# Altium schematic symbol library Kon_Tipk.SchLib: 80 symbols
Pins are listed as number, name and electrical type; pins without a type are passive.

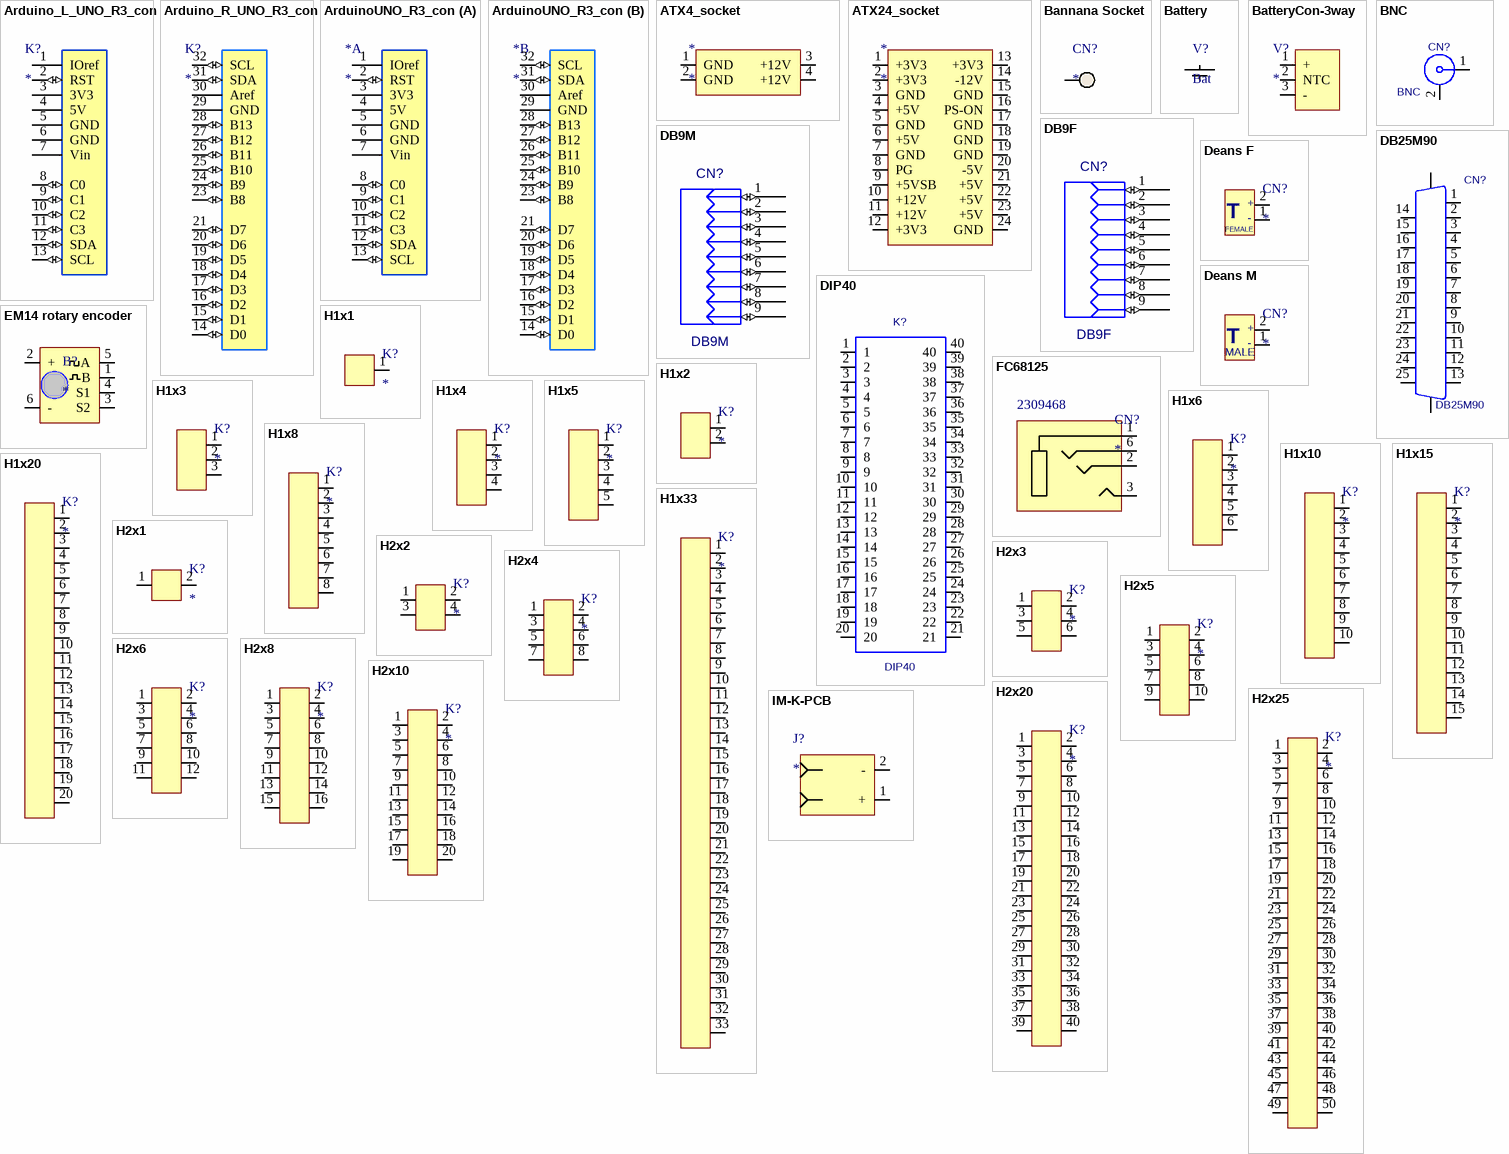
[diagram p0: symbols Arduino_L_UNO_R3_con to IM-K-PCB]

## Arduino_L_UNO_R3_con
designator K?
footprint Arduino_L_UNO_R3_con (Left Header placement for Arduino UNO R3)
pins: 1 IOref (power), 2 RST (io), 3 3V3 (power), 4 5V (power), 5 GND (power), 6 GND (power), 7 Vin (power), 8 C0 (io), 9 C1 (io), 10 C2 (io), 11 C3 (io), 12 SDA (io), 13 SCL (io)

## Arduino_R_UNO_R3_con
designator K?
footprint Arduino_R_UNO_R3_con (Right Header placement for Arduino UNO R3)
pins: 14 D0 (io), 15 D1 (io), 16 D2 (io), 17 D3 (io), 18 D4 (io), 19 D5 (io), 20 D6 (io), 21 D7 (io), 23 B8 (io), 24 B9 (io), 25 B10 (io), 26 B11 (io), 27 B12 (io), 28 B13 (io), 29 GND (power), 30 Aref (power), 31 SDA (io), 32 SCL (io)

## ArduinoUNO_R3_con
designator *
footprint ArduinoUNO_R3_con (Header placement for Arduino UNO R3)
part A pins: 1 IOref (power), 2 RST (io), 3 3V3 (power), 4 5V (power), 5 GND (power), 6 GND (power), 7 Vin (power), 8 C0 (io), 9 C1 (io), 10 C2 (io), 11 C3 (io), 12 SDA (io), 13 SCL (io)
part B pins: 14 D0 (io), 15 D1 (io), 16 D2 (io), 17 D3 (io), 18 D4 (io), 19 D5 (io), 20 D6 (io), 21 D7 (io), 23 B8 (io), 24 B9 (io), 25 B10 (io), 26 B11 (io), 27 B12 (io), 28 B13 (io), 29 GND (power), 30 Aref (power), 31 SDA (io), 32 SCL (io)

## ATX4_socket
designator *
footprint ATX4_socket
pins: 1 GND, 2 GND, 3 +12V, 4 +12V

## ATX24_socket
designator *
footprint ATX24_socket
pins: 1 +3V3, 2 +3V3, 3 GND, 4 +5V, 5 GND, 6 +5V, 7 GND, 8 PG, 9 +5VSB, 10 +12V, 11 +12V, 12 +3V3, 13 +3V3, 14 -12V, 15 GND, 16 PS-ON, 17 GND, 18 GND, 19 GND, 20 -5V, 21 +5V, 22 +5V, 23 +5V, 24 GND

## Bannana Socket
designator CN?
Bannana test socket 4mm
footprint Banana Socket BLACK
footprint Banana Socket RED
pins: 1

## Battery
designator V?, comment Bat
Battery holder
footprint BAT-CLIP-AAA (--UNVERIFIED!!!-- AAA Battery holder clips)
footprint Bat-2032-THT (CR2032 Bat holder THT)
footprint Bat-2032-SMD (CR2032 Bat holder SMD)
pins: +, -

## BatteryCon-3way
designator V?
footprint BATcon-AVX-009155003541006 (9155 MOBO 2.5mm right angle battery connector)
pins: 1 +, 2 NTC, 3 -

## BNC
designator CN?
Value: *
footprint COAX; pin to pad 2>2+3+4+5
pins: 1, 2 GND (power)

## DB9F
designator CN?
Boardmount Pin Connector; Value: *
footprint DB9F
pins: 1 P1 (io), 2 P2 (io), 3 P3 (io), 4 P4 (io), 5 P5 (io), 6 P6 (io), 7 P7 (io), 8 P8 (io), 9 P9 (io)

## DB9M
designator CN?
Boardmount Pin Connector; Value: *
footprint DB9M
pins: 1 P1 (io), 2 P2 (io), 3 P3 (io), 4 P4 (io), 5 P5 (io), 6 P6 (io), 7 P7 (io), 8 P8 (io), 9 P9 (io)

## DB25M90
designator CN?
Value: *
footprint DB25M90
pins: 1, 2, 3, 4, 5, 6, 7, 8, 9, 10, 11, 12, 13, 14, 15, 16, 17, 18, 19, 20, 21, 22, 23, 24, 25, 26 SHIELD (power), 27 SHIELD (power)

## Deans F
designator CN?
Deans female
footprint DEANS-F
pins: 1, 2
text: +; T; -; FEMALE

## Deans M
designator CN?
Deans male
footprint DEANS-M
pins: 1, 2
text: +; T; -; MALE

## DIP40
designator K?
Value: *
footprint DIP40
pins: 1, 2, 3, 4, 5, 6, 7, 8, 9, 10, 11, 12, 13, 14, 15, 16, 17, 18, 19, 20, 21, 22, 23, 24, 25, 26, 27, 28, 29, 30, 31, 32, 33, 34, 35, 36, 37, 38, 39, 40

## EM14 rotary encoder
designator B?
footprint EM14RotaryEncoderAxial
footprint EM14RotaryEncoderAxialWithBracket
pins: 1 B, 2 +, 3 S2, 4 S1, 5 A, 6 -

## FC68125
designator CN?  Supplier Part Number 1: 2309468
Phone Jack 3.5mm 4-pole; Manufacturer: CLIFF ELECTRONIC COMPONENTS; Manufacturer Part Number: FC68125; Pin Diameter: 3.5; No. of Contacts: 4; Supplier 1: Farnell; ComponentLink1URL: http://www.farnell.com/cad/1803251.pdf; ComponentLink1Description: http://www.farnell.com/cad/1803251.pdf; ComponentLink2URL: http://www.farnell.com/datasheets/1759063.pdf; ComponentLink2Description: http://www.farnell.com/datasheets/1759063.pdf
footprint FC68125 (3.5mm phone jack 4-pole)
pins: 1, 2, 3, 6

## H1x1
designator K?
Header 1x1 (male)
footprint H1x1
pins: 1

## H1x2
designator K?
Header 1x2 (male)
footprint H1x2
pins: 1, 2

## H1x3
designator K?
Header 1x3 (male)
footprint H1x3
pins: 1, 2, 3

## H1x4
designator K?
Header 1x4 (male)
footprint H1x4
pins: 1, 2, 3, 4

## H1x5
designator K?
Header 1x5 (male)
footprint H1x5
pins: 1, 2, 3, 4, 5

## H1x6
designator K?
Header 1x6 (male)
footprint H1x6
pins: 1, 2, 3, 4, 5, 6

## H1x8
designator K?
Header 1x8 (male)
footprint H1x8
pins: 1, 2, 3, 4, 5, 6, 7, 8

## H1x10
designator K?
Header 1x10 (male)
footprint H1x10
pins: 1, 2, 3, 4, 5, 6, 7, 8, 9, 10

## H1x15
designator K?
Header 1x10 (male)
footprint H1x15
pins: 1, 2, 3, 4, 5, 6, 7, 8, 9, 10, 11, 12, 13, 14, 15

## H1x20
designator K?
Header 1x20 (male)
footprint H1x20
pins: 1, 2, 3, 4, 5, 6, 7, 8, 9, 10, 11, 12, 13, 14, 15, 16, 17, 18, 19, 20

## H1x33
designator K?
Header 1x20 (male)
footprint H1x33
pins: 1, 2, 3, 4, 5, 6, 7, 8, 9, 10, 11, 12, 13, 14, 15, 16, 17, 18, 19, 20, 21, 22, 23, 24, 25, 26, 27, 28, 29, 30, 31, 32, 33

## H2x1
designator K?
Header 2x1 (male)
footprint H2x1
footprint H2x1 90
pins: 1, 2
1 alternate drawing of the same symbol

## H2x2
designator K?
Header 2x2 (male)
footprint H2x2
footprint H2x3 90
pins: 1, 2, 3, 4
1 alternate drawing of the same symbol

## H2x3
designator K?
Header 2x3 (male)
footprint H2x3
footprint H2x3 90
footprint H2X3_SPEEDY
footprint H2X3_90_SPEEDY
footprint H2X3-edge-SPEEDY
pins: 1, 2, 3, 4, 5, 6
1 alternate drawing of the same symbol

## H2x4
designator K?
Header 2x4 (male)
footprint H2x4
footprint H2x4 90
pins: 1, 2, 3, 4, 5, 6, 7, 8
1 alternate drawing of the same symbol

## H2x5
designator K?
Header 2x5 (male)
footprint H2x5_SPEEDY
footprint H2x5_90_SPEEDY
footprint H2x5
footprint H2x5 90
footprint H2x5 - FEMALE
pins: 1, 2, 3, 4, 5, 6, 7, 8, 9, 10
1 alternate drawing of the same symbol

## H2x6
designator K?
Header 2x5 (male)
footprint H2x6
pins: 1, 2, 3, 4, 5, 6, 7, 8, 9, 10, 11, 12
1 alternate drawing of the same symbol

## H2x8
designator K?
Header 2x5 (male)
footprint H2x8
pins: 1, 2, 3, 4, 5, 6, 7, 8, 9, 10, 11, 12, 13, 14, 15, 16
1 alternate drawing of the same symbol

## H2x10
designator K?
Header 2x10 (male)
footprint H2x10
footprint H2x10 90
pins: 1, 2, 3, 4, 5, 6, 7, 8, 9, 10, 11, 12, 13, 14, 15, 16, 17, 18, 19, 20
1 alternate drawing of the same symbol

## H2x20
designator K?
Header 2x20 (male)
footprint H2x20
footprint H2x20 90
pins: 1, 2, 3, 4, 5, 6, 7, 8, 9, 10, 11, 12, 13, 14, 15, 16, 17, 18, 19, 20, 21, 22, 23, 24, 25, 26, 27, 28, 29, 30, 31, 32, 33, 34, 35, 36, 37, 38, 39, 40
1 alternate drawing of the same symbol

## H2x25
designator K?
Header 2x25
footprint H2x25
pins: 1, 2, 3, 4, 5, 6, 7, 8, 9, 10, 11, 12, 13, 14, 15, 16, 17, 18, 19, 20, 21, 22, 23, 24, 25, 26, 27, 28, 29, 30, 31, 32, 33, 34, 35, 36, 37, 38, 39, 40, 41, 42, 43, 44, 45, 46, 47, 48, 49, 50
1 alternate drawing of the same symbol

## IM-K-PCB
designator J?
footprint IM-x-PCB
pins: 1 +, 2 -

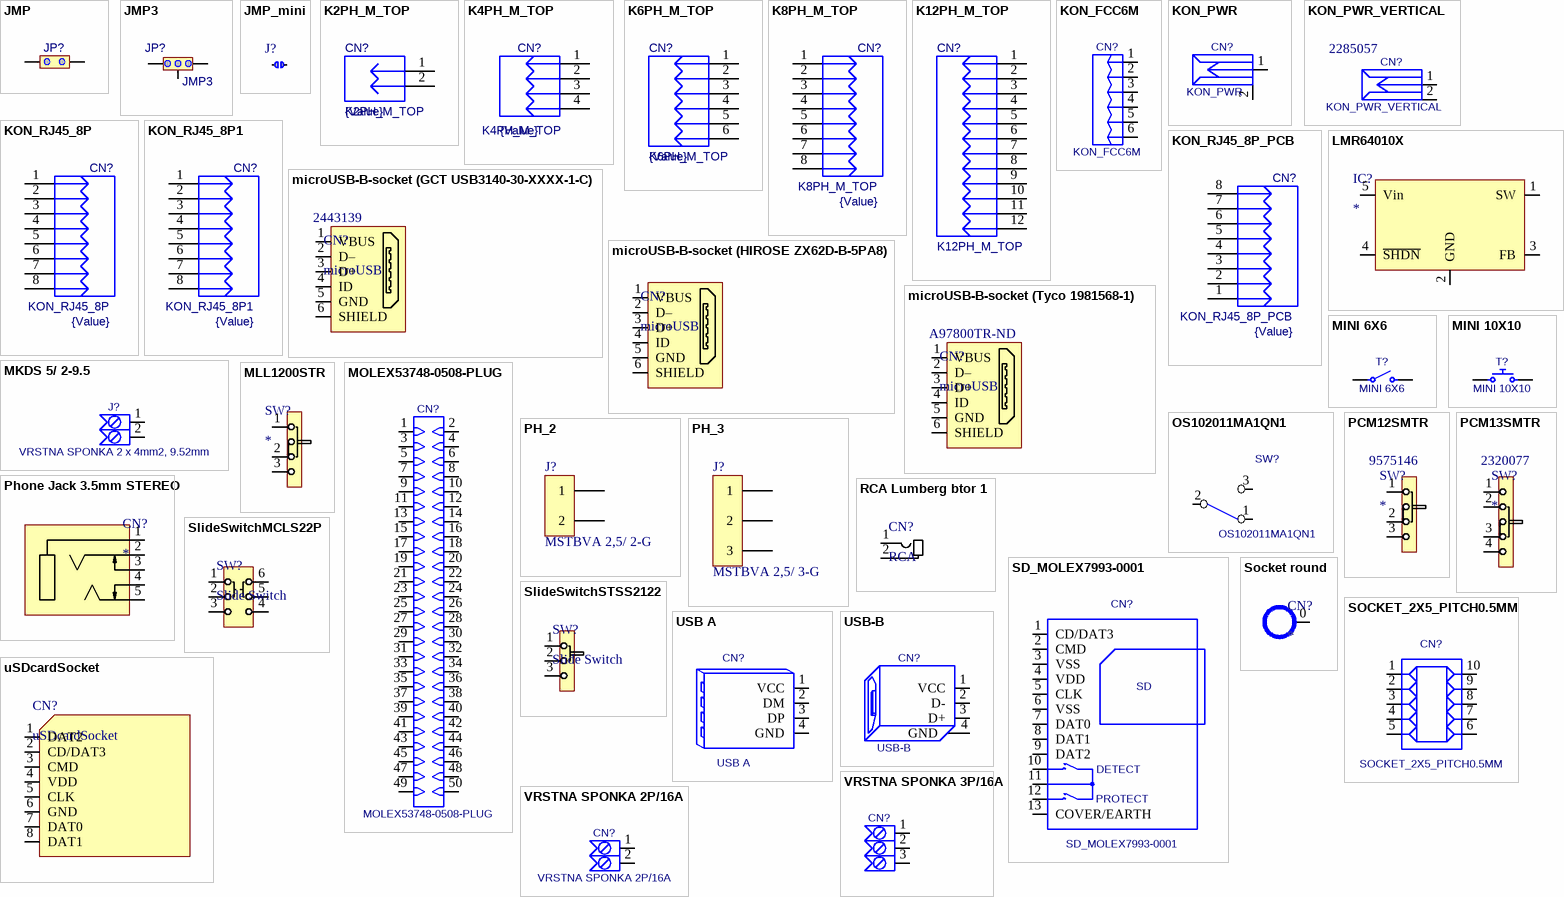
[diagram p1: symbols JMP to VRSTNA SPONKA 3P/16A]

## JMP
designator JP?  (value not drawn)
Value: {Value}
footprint H1x2
footprint H1x2+solderJumper
footprint solderJumper
pins: 1, 2

## JMP3
designator JP?
Value: {Value}
footprint H1x3; pin to pad 2>3 3>2
pins: 1, 2, 3

## JMP_mini
designator J?
footprint solderJumper
pins: 1, 2

## K2PH_M_TOP
designator CN?  value {Value}
footprint K2PH_M_TOP
pins: 1, 2

## K4PH_M_TOP
designator CN?  value {Value}
footprint K4PH_M_TOP
pins: 1, 2, 3, 4

## K6PH_M_TOP
designator CN?  value {Value}
footprint K6PH_M_TOP
pins: 1, 2, 3, 4, 5, 6

## K8PH_M_TOP
designator CN?  value {Value}
footprint K8PH_TOP
pins: 1, 2, 3, 4, 5, 6, 7, 8

## K12PH_M_TOP
designator CN?
Value: *
footprint K12PH_TOP
pins: 1, 2, 3, 4, 5, 6, 7, 8, 9, 10, 11, 12

## KON_FCC6M
designator CN?
Value: *
footprint KON FCC_6F
pins: 1, 2, 3, 4, 5, 6, 7 hidden, 8 hidden

## KON_PWR
designator CN?
Value: *
footprint _KON_PWR_KON_PWR(Primary)
pins: 1, 2, 3 hidden

## KON_PWR_VERTICAL
designator CN?  Supplier Part Number 1: 2285057
KON_PWR; Value: *; Supplier 1: Farnell
footprint CN PWR VERTICAL (FC68146 Power connector, vertical - manually corrected footprint)
pins: 1, 2, 3 hidden

## KON_RJ45_8P
designator CN?  value {Value}
footprint MIKRO_8P_PCB
pins: 1, 2, 3, 4, 5, 6, 7, 8, 9 hidden, 10 hidden

## KON_RJ45_8P1
designator CN?  value {Value}
footprint MIKRO_8P_PCB1
pins: 1, 2, 3, 4, 5, 6, 7, 8, 9 hidden, 10 hidden

## KON_RJ45_8P_PCB
designator CN?  value {Value}
footprint _KON_ETHERNET_PCB_KON_RJ45_8P_PCB(Primary)
pins: 1, 2, 3, 4, 5, 6, 7, 8

## LMR64010X
designator IC?
Step-up, 40Vout, 1A, 2.7-14Vin, 1.6MHz
footprint SOT23-5 (SOT23, 5-Leads, Body 3.0x3.0mm (max), Pitch 0.95mm, IPC Medium Density)
pins: 1 SW, 2 GND, 3 FB, 4 ~{SHDN}, 5 Vin

## microUSB-B-socket (GCT USB3140-30-XXXX-1-C)
designator CN?, comment microUSB  Supplier Part Number 1: 2443139
micro USB-B socket vertical SMD (GCT USB3140-30-XXXX-1-C); ComponentLink1URL: http://www.farnell.com/datasheets/1693470.pdf; ComponentLink1Description: http://www.farnell.com/datasheets/1693470.pdf; Supplier 1: Farnell
footprint micro-USB_GCT_USB3140-30-xxxx-1-C (microUSB B receptacle vertical SMD); pin to pad 6>0
pins: 1 VBUS, 2 D–, 3 D+, 4 ID, 5 GND, 6 SHIELD

## microUSB-B-socket (HIROSE ZX62D-B-5PA8)
designator CN?, comment microUSB
micro USB-B socket (HIROSE ZX62D-B-5PA8); Supplier 1: Farnell; ComponentLink1URL: http://www.farnell.com/datasheets/1693470.pdf; ComponentLink1Description: http://www.farnell.com/datasheets/1693470.pdf; Supplier Part Number 1: 2300438
footprint micro-USB-HRS-ZX62D-B-5PA8; pin to pad 6>0
pins: 1 VBUS, 2 D–, 3 D+, 4 ID, 5 GND, 6 SHIELD

## microUSB-B-socket (Tyco 1981568-1)
designator CN?, comment microUSB  Supplier Part Number 1: A97800TR-ND
micro USB-B socket (Tyco 1981568-1); ComponentLink1URL: http://www.farnell.com/datasheets/1693470.pdf; ComponentLink1Description: http://www.farnell.com/datasheets/1693470.pdf; Supplier 1: Digi-Key
footprint MICRO-USB_Tyco_1981568-1 (Micro USB socket Tyco 1981568-1)
pins: 1 VBUS, 2 D–, 3 D+, 4 ID, 5 GND, 6 SHIELD

## MINI 6X6
designator T?
Value: *
footprint SW 5x6 SMD SHORT; pin to pad 1>1+4 2>2+3
footprint SW 6x6 THT short; pin to pad 1>1+4 2>2+3
footprint SW 6x6 THT tall; pin to pad 1>1+4 2>2+3
footprint Tipka 6x6; pin to pad 1>1+2 2>3+4
pins: 1, 2
1 alternate drawing of the same symbol

## MINI 10X10
designator T?
Value: *
footprint TIPKA MINI 10X10
pins: 1, 2 hidden, 3, 4 hidden

## MKDS 5/ 2-9.5
designator J?, comment VRSTNA SPONKA 2 x 4mm2, 9.52mm
VRSTNA SPONKA PHOENIX CONTACT MKDS 5/ 2-9,5 (1714971); Value: *
footprint MKDS 5/ 2-9.5
pins: 1, 2

## MLL1200STR
designator SW?
Slide Switch TE connectivity (TYCO)
footprint MLL1200STR (TE slide switch)
pins: 1, 2, 3

## MOLEX53748-0508-PLUG
designator CN?
Value: *
footprint MOLEX53748-0508
pins: 1, 2, 3, 4, 5, 6, 7, 8, 9, 10, 11, 12, 13, 14, 15, 16, 17, 18, 19, 20, 21, 22, 23, 24, 25, 26, 27, 28, 29, 30, 31, 32, 33, 34, 35, 36, 37, 38, 39, 40, 41, 42, 43, 44, 45, 46, 47, 48, 49, 50

## OS102011MA1QN1
designator SW?
Value: *
footprint OS102011-3POLNI SLIDE
pins: 1, 2, 3, 4 hidden, 5 hidden

## PCM12SMTR
designator SW?  Supplier Part Number 1: 9575146
Slide Switch C&K components; Supplier 1: Farnell; ComponentLink1URL: http://www.farnell.com/datasheets/1685524.pdf; ComponentLink1Description: http://www.farnell.com/datasheets/1685524.pdf
footprint PCM12SMTR (C&K components slide switch)
pins: 1, 2, 3

## PCM13SMTR
designator SW?  Supplier Part Number 1: 2320077
Slide Switch C&K components; Supplier 1: Farnell; ComponentLink1URL: http://www.farnell.com/datasheets/1707732.pdf; ComponentLink1Description: http://www.farnell.com/datasheets/1707732.pdf
footprint PCM13SMTR (C&K components slide switch)
pins: 1, 2, 3, 4

## PH_2
designator J?, comment MSTBVA 2,5/ 2-G
Phoenoix connector 2 poles; Part Number: CPH0002; Manufacturer: Phoenix; Gender: male; Rows: 1; Pitch: 5mm; Category: Connectors; Supplier part number 1: 2478646; Supplier 1: Farnell; Price: 0.61; Manufacturer Number: MSTBVA 2,5/ 2-G; Pins: 2; Orientation: horizontal; Technology: THT; HelpURL: U:\datasheet\connectors_phoenix\2322667.pdf
footprint PH_2
pins: 1, 2

## PH_3
designator J?, comment MSTBVA 2,5/ 3-G
Phoenoix connector 3 poles; Part Number: CPH0003; Manufacturer: Phoenix; Gender: male; Rows: 1; Pitch: 5mm; Category: Connectors; Supplier part number 1: 2478647; Supplier 1: Farnell; Price: 0.44; Manufacturer Number: MSTBVA 2,5/ 3-G; Pins: 3; Orientation: horizontal; Technology: THT; HelpURL: U:\datasheet\connectors_phoenix\2322668.pdf
footprint PH_3
pins: 1, 2, 3

## Phone Jack 3.5mm STEREO
designator CN?
footprint 3.5mmPhoneJackPCB_UJ3508A (3.5mm Phone Jack for PCB UJ-3508-A)
pins: 1, 2, 3, 4, 5

## RCA Lumberg btor 1
designator CN?, comment RCA
footprint RCA_F (RCA connector, female, vertical, Lumberg btor1)
pins: 1, 2

## SD_MOLEX7993-0001
designator CN?
Value: *
footprint SD_MOLEX67993-0001
pins: 1 CD/DAT3, 2 CMD, 3 VSS, 4 VDD, 5 CLK, 6 VSS, 7 DAT0, 8 DAT1, 9 DAT2, 10 DETECT, 11 COM_DP, 12 PROTECT, 13 COVER/EARTH (power)
text: SD

## SlideSwitchMCLS22P
designator SW?, comment Slide Switch
Slide Switch Multicomp MCLS22P; Supplier 1: Farnell; ComponentLink1URL: http://www.farnell.com/datasheets/1662635.pdf; ComponentLink1Description: http://www.farnell.com/datasheets/1662635.pdf; Supplier Part Number 1: 1522047
footprint SlideSwitch MCLSS22P
pins: 1, 2, 3, 4, 5, 6

## SlideSwitchSTSS2122
designator SW?, comment Slide Switch
Slide Switch ALPS STSSS2122; ComponentLink1URL: http://www.farnell.com/datasheets/1662635.pdf; ComponentLink1Description: http://www.farnell.com/datasheets/1662635.pdf
footprint SlideSwitch STSSS2122
pins: 1, 2, 3

## Socket round
designator CN?
footprint Socket 4mm small
pins: 0

## SOCKET_2X5_PITCH0.5MM
designator CN?
Value: *
footprint SOCKET2X5_PITCH0.5MM
pins: 1, 2, 3, 4, 5, 6, 7, 8, 9, 10

## USB A
designator CN?
USB; Value: *
footprint PRIMITIVE_USB
pins: 1 VCC (power), 2 DM (io), 3 DP (io), 4 GND (power)

## USB-B
designator CN?
Value: *
footprint _USB_B_90_F_USB-B-90F(Primary)
pins: 1 VCC (power), 2 D- (io), 3 D+ (io), 4 GND (power)

## uSDcardSocket
designator CN?
footprint uSDcardSlot-hinged
pins: 1 DAT2, 2 CD/DAT3, 3 CMD, 4 VDD, 5 CLK, 6 GND, 7 DAT0, 8 DAT1

## VRSTNA SPONKA 2P/16A
designator CN?
Value: *
footprint VRSTNA SPONKA 2P/16A
pins: 1, 2

## VRSTNA SPONKA 3P/16A
designator CN?  (value not drawn)
VRSTNA SPONKA 3P/16A; Value: *
footprint VRSTNA SPONKA 3P/16A
pins: 1, 2, 3

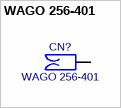
[diagram p2: symbol WAGO 256-401]

## WAGO 256-401
designator CN?
Value: *
footprint WAGO 256-401
pins: 1, 2 hidden